# EAGLE library part PICOLOCK_7 (library DubSat1 Components)
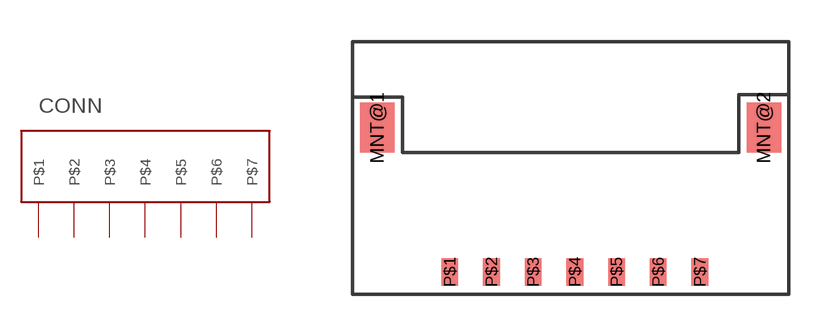
[diagram p17: symbol with the pads of PICOLOCK_7; footprint PICOLOCK_7]

Designator prefix CONN

## PICOLOCK_7PICOLOCK_7  [PICOLOCK_7]
P$1  P$1
P$2  P$2
P$3  P$3
P$4  P$4
P$5  P$5
P$6  P$6
P$7  P$7

## Footprint PICOLOCK_7 (pad centres in mm)
smd 1.25 x 1.8: MNT@1 -2.605,5.2; MNT@2 11.305,5.2
smd 0.6 x 1: P$1 0,0; P$2 1.5,0; P$3 3,0; P$4 4.5,0; P$5 6,0; P$6 7.5,0; P$7 9,0